# EAGLE library part MAX6675 (library CasaLibrary)
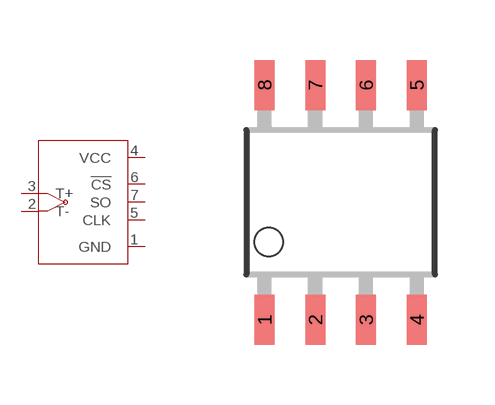
[diagram p22: symbol with the pads of SO08; footprint SO08]

Designator prefix -

## MAX6675  [SO08]
1  GND
2  T-
3  T+
4  VCC
5  CLK
6  !CS
7  SO

## Footprint SO08 (pad centres in mm)
Small Outline Package
smd 0.5 x 1.25: 1 -1.905,-2.934; 2 -0.635,-2.934; 3 0.635,-2.934; 4 1.905,-2.934; 5 1.905,2.934; 6 0.635,2.934; 7 -0.635,2.934; 8 -1.905,2.934